# Altium footprint library IS31FL3731-SALS2.PcbLib: 3 footprints
Each footprint in its own frame and in the unit in brackets; x right, y up, seen from the top. Pads: shape width x height; smd on the part's side, far side on the other; paste and mask are expansions set on the pad; w line width, h text height; cw(c..) or ccw(c..) is an arc to the next point about the centre after c.
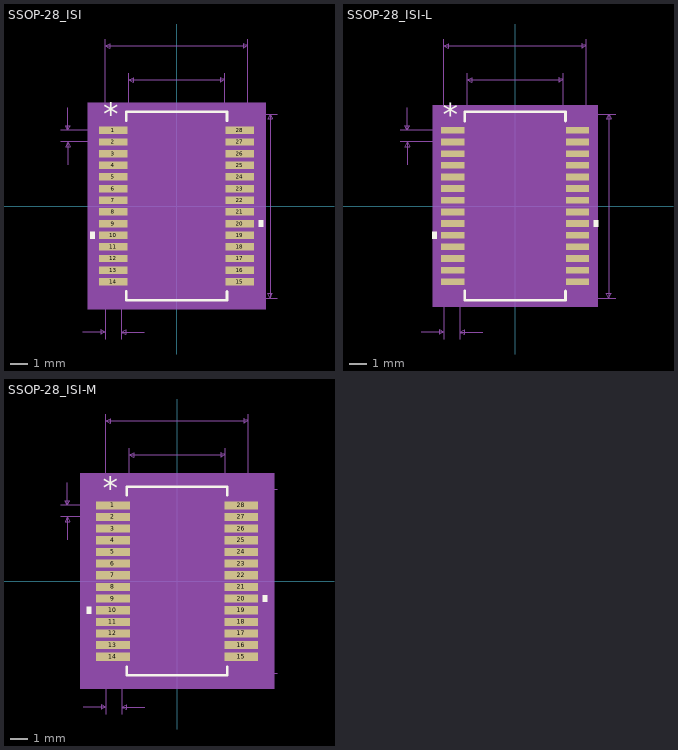
[diagram p0: the footprints below, top view; thin cyan lines are the x and y axes]

## SSOP-28_ISI [mm]
pads (28):
  rect 1.589x0.416 smd paste+0 mask+0: 1(-3.531,4.225) 2(-3.531,3.575) 3(-3.531,2.925) 4(-3.531,2.275) 5(-3.531,1.625) 6(-3.531,0.975) 7(-3.531,0.325) 8(-3.531,-0.325) 9(-3.531,-0.975) 10(-3.531,-1.625) 11(-3.531,-2.275) 12(-3.531,-2.925) 13(-3.531,-3.575) 14(-3.531,-4.225) 15(3.531,-4.225) 16(3.531,-3.575) 17(3.531,-2.925) 18(3.531,-2.275) 19(3.531,-1.625) 20(3.531,-0.975) 21(3.531,-0.325) 22(3.531,0.325) 23(3.531,0.975) 24(3.531,1.625) 25(3.531,2.275) 26(3.531,2.925) 27(3.531,3.575) 28(3.531,4.225)
Top Overlay:
  region: -4.579,-1.434 -4.833,-1.434 -4.833,-1.815 -4.579,-1.815
  region: 4.579,-0.784 4.833,-0.784 4.833,-1.165 4.579,-1.165
  lines w0.152: -2.807,-4.766 -2.807,-5.258 2.807,-5.258 2.807,-4.766 ; -2.807,4.766 -2.807,5.258 2.807,5.258 2.807,4.766
  text "*" at -4.102,4.514 h1.27
Mechanical 5:
  region: 4.96,-5.766 -4.96,-5.766 -4.96,5.766 4.96,5.766
Mechanical 7:
  lines w0.025: -6.452,3.575 -3.531,3.575 ; -6.452,4.225 -3.531,4.225 ; -6.071,2.305 -6.071,3.575 ; -6.071,5.495 -6.071,4.225 ; -5.245,-7.036 -3.975,-7.036 ; -3.975,-7.417 -3.975,0 -3.975,9.322 ; -3.086,-7.417 -3.086,0 ; -2.68,0 -2.68,7.417 ; -1.816,-7.036 -3.086,-7.036 ; 0,-5.131 5.601,-5.131 ; 0,5.131 5.601,5.131 ; 2.68,0 2.68,7.417 ; 3.975,0 3.975,9.322 ; -6.071,3.575 -6.198,3.321 -5.944,3.321 -6.071,3.575 ; -6.071,4.225 -6.198,4.479 -5.944,4.479 -6.071,4.225 ; -3.975,-7.036 -4.229,-6.909 -4.229,-7.163 -3.975,-7.036 ; -3.975,8.941 3.975,8.941 ; -3.975,8.941 -3.721,9.068 -3.721,8.814 -3.975,8.941 ; -3.086,-7.036 -2.832,-6.909 -2.832,-7.163 -3.086,-7.036 ; -2.68,7.036 2.68,7.036 ; -2.68,7.036 -2.426,7.163 -2.426,6.909 -2.68,7.036 ; 2.68,7.036 2.426,7.163 2.426,6.909 2.68,7.036 ; 3.975,8.941 3.721,9.068 3.721,8.814 3.975,8.941 ; 5.22,-5.131 5.22,5.131 ; 5.22,-5.131 5.093,-4.877 5.347,-4.877 5.22,-5.131 ; 5.22,5.131 5.093,4.877 5.347,4.877 5.22,5.131
  text "Default Padstyle: r159_42" at -7.938,-10.211 h1.27
  text "Pin One Padstyle: r159_42" at -7.938,-11.735 h1.27
  text "Alt 1 Padstyle: b152_229h76" at -8.572,-16.307 h1.27
  text "Alt 2 Padstyle: b229_152h76" at -8.572,-17.831 h1.27
  text "0.211in/5.359mm" at -2.381,7.544 h0.64
  text "0.313in/7.95mm" at -2.222,9.449 h0.64
  text "0.404in/10.262mm" at 5.728,-0.318 h0.64
  text "0.026in/0.65mm" at -11.024,3.582 h0.64
  text "0.035in/0.889mm" at -5.912,-8.179 h0.64
Mechanical 13:
  lines w0: -0.305,5.131 ccw(c0,5.131) 0.305,5.131
  lines w0.025: -3.975,-4.403 -3.975,-4.047 -2.68,-4.047 -2.68,-4.403 -3.975,-4.403 ; -3.975,-3.753 -3.975,-3.397 -2.68,-3.397 -2.68,-3.753 -3.975,-3.753 ; -3.975,-3.103 -3.975,-2.747 -2.68,-2.747 -2.68,-3.103 -3.975,-3.103 ; -3.975,-2.453 -3.975,-2.097 -2.68,-2.097 -2.68,-2.453 -3.975,-2.453 ; -3.975,-1.803 -3.975,-1.447 -2.68,-1.447 -2.68,-1.803 -3.975,-1.803 ; -3.975,-1.153 -3.975,-0.797 -2.68,-0.797 -2.68,-1.153 -3.975,-1.153 ; -3.975,-0.503 -3.975,-0.147 -2.68,-0.147 -2.68,-0.503 -3.975,-0.503 ; -3.975,0.147 -3.975,0.503 -2.68,0.503 -2.68,0.147 -3.975,0.147 ; -3.975,0.797 -3.975,1.153 -2.68,1.153 -2.68,0.797 -3.975,0.797 ; -3.975,1.447 -3.975,1.803 -2.68,1.803 -2.68,1.447 -3.975,1.447 ; -3.975,2.097 -3.975,2.453 -2.68,2.453 -2.68,2.097 -3.975,2.097 ; -3.975,2.747 -3.975,3.103 -2.68,3.103 -2.68,2.747 -3.975,2.747 ; -3.975,3.397 -3.975,3.753 -2.68,3.753 -2.68,3.397 -3.975,3.397 ; -3.975,4.047 -3.975,4.403 -2.68,4.403 -2.68,4.047 -3.975,4.047 ; -2.68,-5.131 2.68,-5.131 2.68,5.131 -2.68,5.131 -2.68,-5.131 ; 2.68,-4.403 2.68,-4.047 3.975,-4.047 3.975,-4.403 2.68,-4.403 ; 2.68,-3.753 2.68,-3.397 3.975,-3.397 3.975,-3.753 2.68,-3.753 ; 2.68,-3.103 2.68,-2.747 3.975,-2.747 3.975,-3.103 2.68,-3.103 ; 2.68,-2.453 2.68,-2.097 3.975,-2.097 3.975,-2.453 2.68,-2.453 ; 2.68,-1.803 2.68,-1.447 3.975,-1.447 3.975,-1.803 2.68,-1.803 ; 2.68,-1.153 2.68,-0.797 3.975,-0.797 3.975,-1.153 2.68,-1.153 ; 2.68,-0.503 2.68,-0.147 3.975,-0.147 3.975,-0.503 2.68,-0.503 ; 2.68,0.147 2.68,0.503 3.975,0.503 3.975,0.147 2.68,0.147 ; 2.68,0.797 2.68,1.153 3.975,1.153 3.975,0.797 2.68,0.797 ; 2.68,1.447 2.68,1.803 3.975,1.803 3.975,1.447 2.68,1.447 ; 2.68,2.097 2.68,2.453 3.975,2.453 3.975,2.097 2.68,2.097 ; 2.68,2.747 2.68,3.103 3.975,3.103 3.975,2.747 2.68,2.747 ; 2.68,3.397 2.68,3.753 3.975,3.753 3.975,3.397 2.68,3.397 ; 2.68,4.047 2.68,4.403 3.975,4.403 3.975,4.047 2.68,4.047
  text "*" at -2.616,3.785 h1.27
Mechanical 15:
  region: -2.934,-4.687 -4.579,-4.687 -4.579,4.687 -2.934,4.687 -2.934,5.385 2.934,5.385 2.934,4.687 4.579,4.687 4.579,-4.687 2.934,-4.687 2.934,-5.385 -2.934,-5.385
  lines w0.152: -4.579,-4.687 -4.579,4.687 -2.934,4.687 -2.934,5.385 2.934,5.385 2.934,4.687 4.579,4.687 4.579,-4.687 2.934,-4.687 2.934,-5.385 -2.934,-5.385 -2.934,-4.687 -4.579,-4.687
3D body: height 0.25, standoff 0, extent 0,0 0.254,0.254

## SSOP-28_ISI-L [mm]
pads (28):
  rect 1.289x0.376 smd paste+0 mask+0: 1(-3.481,4.225) 2(-3.481,3.575) 3(-3.481,2.925) 4(-3.481,2.275) 5(-3.481,1.625) 6(-3.481,0.975) 7(-3.481,0.325) 8(-3.481,-0.325) 9(-3.481,-0.975) 10(-3.481,-1.625) 11(-3.481,-2.275) 12(-3.481,-2.925) 13(-3.481,-3.575) 14(-3.481,-4.225) 15(3.481,-4.225) 16(3.481,-3.575) 17(3.481,-2.925) 18(3.481,-2.275) 19(3.481,-1.625) 20(3.481,-0.975) 21(3.481,-0.325) 22(3.481,0.325) 23(3.481,0.975) 24(3.481,1.625) 25(3.481,2.275) 26(3.481,2.925) 27(3.481,3.575) 28(3.481,4.225)
Top Overlay:
  region: -4.379,-1.434 -4.633,-1.434 -4.633,-1.815 -4.379,-1.815
  region: 4.379,-0.784 4.633,-0.784 4.633,-1.165 4.379,-1.165
  lines w0.152: -2.807,-4.744 -2.807,-5.258 2.807,-5.258 2.807,-4.744 ; -2.807,4.744 -2.807,5.258 2.807,5.258 2.807,4.744
  text "*" at -4.052,4.474 h1.27
Mechanical 5:
  region: 4.608,-5.613 -4.608,-5.613 -4.608,5.613 4.608,5.613
Mechanical 7:
  lines w0.025: -6.402,3.575 -3.481,3.575 ; -6.402,4.225 -3.481,4.225 ; -6.021,2.305 -6.021,3.575 ; -6.021,5.495 -6.021,4.225 ; -5.245,-7.036 -3.975,-7.036 ; -3.975,-7.417 -3.975,0 -3.975,9.322 ; -3.086,-7.417 -3.086,0 ; -2.68,0 -2.68,7.417 ; -1.816,-7.036 -3.086,-7.036 ; 0,-5.131 5.601,-5.131 ; 0,5.131 5.601,5.131 ; 2.68,0 2.68,7.417 ; 3.975,0 3.975,9.322 ; -6.021,3.575 -6.148,3.321 -5.894,3.321 -6.021,3.575 ; -6.021,4.225 -6.148,4.479 -5.894,4.479 -6.021,4.225 ; -3.975,-7.036 -4.229,-6.909 -4.229,-7.163 -3.975,-7.036 ; -3.975,8.941 3.975,8.941 ; -3.975,8.941 -3.721,9.068 -3.721,8.814 -3.975,8.941 ; -3.086,-7.036 -2.832,-6.909 -2.832,-7.163 -3.086,-7.036 ; -2.68,7.036 2.68,7.036 ; -2.68,7.036 -2.426,7.163 -2.426,6.909 -2.68,7.036 ; 2.68,7.036 2.426,7.163 2.426,6.909 2.68,7.036 ; 3.975,8.941 3.721,9.068 3.721,8.814 3.975,8.941 ; 5.22,-5.131 5.22,5.131 ; 5.22,-5.131 5.093,-4.877 5.347,-4.877 5.22,-5.131 ; 5.22,5.131 5.093,4.877 5.347,4.877 5.22,5.131
  text "Default Padstyle: r129_38" at -7.938,-10.211 h1.27
  text "Pin One Padstyle: r129_38" at -7.938,-11.735 h1.27
  text "Alt 1 Padstyle: b152_229h76" at -8.572,-16.307 h1.27
  text "Alt 2 Padstyle: b229_152h76" at -8.572,-17.831 h1.27
  text "0.211in/5.359mm" at -2.381,7.544 h0.64
  text "0.313in/7.95mm" at -2.222,9.449 h0.64
  text "0.404in/10.262mm" at 5.728,-0.318 h0.64
  text "0.026in/0.65mm" at -10.974,3.582 h0.64
  text "0.035in/0.889mm" at -5.912,-8.179 h0.64
Mechanical 13:
  lines w0: -0.305,5.131 ccw(c0,5.131) 0.305,5.131
  lines w0.025: -3.975,-4.403 -3.975,-4.047 -2.68,-4.047 -2.68,-4.403 -3.975,-4.403 ; -3.975,-3.753 -3.975,-3.397 -2.68,-3.397 -2.68,-3.753 -3.975,-3.753 ; -3.975,-3.103 -3.975,-2.747 -2.68,-2.747 -2.68,-3.103 -3.975,-3.103 ; -3.975,-2.453 -3.975,-2.097 -2.68,-2.097 -2.68,-2.453 -3.975,-2.453 ; -3.975,-1.803 -3.975,-1.447 -2.68,-1.447 -2.68,-1.803 -3.975,-1.803 ; -3.975,-1.153 -3.975,-0.797 -2.68,-0.797 -2.68,-1.153 -3.975,-1.153 ; -3.975,-0.503 -3.975,-0.147 -2.68,-0.147 -2.68,-0.503 -3.975,-0.503 ; -3.975,0.147 -3.975,0.503 -2.68,0.503 -2.68,0.147 -3.975,0.147 ; -3.975,0.797 -3.975,1.153 -2.68,1.153 -2.68,0.797 -3.975,0.797 ; -3.975,1.447 -3.975,1.803 -2.68,1.803 -2.68,1.447 -3.975,1.447 ; -3.975,2.097 -3.975,2.453 -2.68,2.453 -2.68,2.097 -3.975,2.097 ; -3.975,2.747 -3.975,3.103 -2.68,3.103 -2.68,2.747 -3.975,2.747 ; -3.975,3.397 -3.975,3.753 -2.68,3.753 -2.68,3.397 -3.975,3.397 ; -3.975,4.047 -3.975,4.403 -2.68,4.403 -2.68,4.047 -3.975,4.047 ; -2.68,-5.131 2.68,-5.131 2.68,5.131 -2.68,5.131 -2.68,-5.131 ; 2.68,-4.403 2.68,-4.047 3.975,-4.047 3.975,-4.403 2.68,-4.403 ; 2.68,-3.753 2.68,-3.397 3.975,-3.397 3.975,-3.753 2.68,-3.753 ; 2.68,-3.103 2.68,-2.747 3.975,-2.747 3.975,-3.103 2.68,-3.103 ; 2.68,-2.453 2.68,-2.097 3.975,-2.097 3.975,-2.453 2.68,-2.453 ; 2.68,-1.803 2.68,-1.447 3.975,-1.447 3.975,-1.803 2.68,-1.803 ; 2.68,-1.153 2.68,-0.797 3.975,-0.797 3.975,-1.153 2.68,-1.153 ; 2.68,-0.503 2.68,-0.147 3.975,-0.147 3.975,-0.503 2.68,-0.503 ; 2.68,0.147 2.68,0.503 3.975,0.503 3.975,0.147 2.68,0.147 ; 2.68,0.797 2.68,1.153 3.975,1.153 3.975,0.797 2.68,0.797 ; 2.68,1.447 2.68,1.803 3.975,1.803 3.975,1.447 2.68,1.447 ; 2.68,2.097 2.68,2.453 3.975,2.453 3.975,2.097 2.68,2.097 ; 2.68,2.747 2.68,3.103 3.975,3.103 3.975,2.747 2.68,2.747 ; 2.68,3.397 2.68,3.753 3.975,3.753 3.975,3.397 2.68,3.397 ; 2.68,4.047 2.68,4.403 3.975,4.403 3.975,4.047 2.68,4.047
  text "*" at -2.616,3.785 h1.27
Mechanical 15:
  region: -2.781,-4.514 -4.227,-4.514 -4.227,4.514 -2.781,4.514 -2.781,5.232 2.781,5.232 2.781,4.514 4.227,4.514 4.227,-4.514 2.781,-4.514 2.781,-5.232 -2.781,-5.232
  lines w0.152: -4.227,-4.514 -4.227,4.514 -2.781,4.514 -2.781,5.232 2.781,5.232 2.781,4.514 4.227,4.514 4.227,-4.514 2.781,-4.514 2.781,-5.232 -2.781,-5.232 -2.781,-4.514 -4.227,-4.514
3D body: height 0.25, standoff 0, extent 0,0 0.254,0.254

## SSOP-28_ISI-M [mm]
pads (28):
  rect 1.889x0.456 smd paste+0 mask+0: 1(-3.581,4.225) 2(-3.581,3.575) 3(-3.581,2.925) 4(-3.581,2.275) 5(-3.581,1.625) 6(-3.581,0.975) 7(-3.581,0.325) 8(-3.581,-0.325) 9(-3.581,-0.975) 10(-3.581,-1.625) 11(-3.581,-2.275) 12(-3.581,-2.925) 13(-3.581,-3.575) 14(-3.581,-4.225) 15(3.581,-4.225) 16(3.581,-3.575) 17(3.581,-2.925) 18(3.581,-2.275) 19(3.581,-1.625) 20(3.581,-0.975) 21(3.581,-0.325) 22(3.581,0.325) 23(3.581,0.975) 24(3.581,1.625) 25(3.581,2.275) 26(3.581,2.925) 27(3.581,3.575) 28(3.581,4.225)
Top Overlay:
  region: -4.779,-1.434 -5.033,-1.434 -5.033,-1.815 -4.779,-1.815
  region: 4.779,-0.784 5.033,-0.784 5.033,-1.165 4.779,-1.165
  lines w0.152: -2.807,-4.786 -2.807,-5.258 2.807,-5.258 2.807,-4.786 ; -2.807,4.786 -2.807,5.258 2.807,5.258 2.807,4.786
  text "*" at -4.152,4.554 h1.27
Mechanical 5:
  region: 5.414,-6.02 -5.414,-6.02 -5.414,6.02 5.414,6.02
Mechanical 7:
  lines w0.025: -6.502,3.575 -3.581,3.575 ; -6.502,4.225 -3.581,4.225 ; -6.121,2.305 -6.121,3.575 ; -6.121,5.495 -6.121,4.225 ; -5.245,-7.036 -3.975,-7.036 ; -3.975,-7.417 -3.975,0 -3.975,9.322 ; -3.086,-7.417 -3.086,0 ; -2.68,0 -2.68,7.417 ; -1.816,-7.036 -3.086,-7.036 ; 0,-5.131 5.601,-5.131 ; 0,5.131 5.601,5.131 ; 2.68,0 2.68,7.417 ; 3.975,0 3.975,9.322 ; -6.121,3.575 -6.248,3.321 -5.994,3.321 -6.121,3.575 ; -6.121,4.225 -6.248,4.479 -5.994,4.479 -6.121,4.225 ; -3.975,-7.036 -4.229,-6.909 -4.229,-7.163 -3.975,-7.036 ; -3.975,8.941 3.975,8.941 ; -3.975,8.941 -3.721,9.068 -3.721,8.814 -3.975,8.941 ; -3.086,-7.036 -2.832,-6.909 -2.832,-7.163 -3.086,-7.036 ; -2.68,7.036 2.68,7.036 ; -2.68,7.036 -2.426,7.163 -2.426,6.909 -2.68,7.036 ; 2.68,7.036 2.426,7.163 2.426,6.909 2.68,7.036 ; 3.975,8.941 3.721,9.068 3.721,8.814 3.975,8.941 ; 5.22,-5.131 5.22,5.131 ; 5.22,-5.131 5.093,-4.877 5.347,-4.877 5.22,-5.131 ; 5.22,5.131 5.093,4.877 5.347,4.877 5.22,5.131
  text "Default Padstyle: r189_46" at -7.938,-10.211 h1.27
  text "Pin One Padstyle: r189_46" at -7.938,-11.735 h1.27
  text "Alt 1 Padstyle: b152_229h76" at -8.572,-16.307 h1.27
  text "Alt 2 Padstyle: b229_152h76" at -8.572,-17.831 h1.27
  text "0.211in/5.359mm" at -2.381,7.544 h0.64
  text "0.313in/7.95mm" at -2.222,9.449 h0.64
  text "0.404in/10.262mm" at 5.728,-0.318 h0.64
  text "0.026in/0.65mm" at -11.074,3.582 h0.64
  text "0.035in/0.889mm" at -5.912,-8.179 h0.64
Mechanical 13:
  lines w0: -0.305,5.131 ccw(c0,5.131) 0.305,5.131
  lines w0.025: -3.975,-4.403 -3.975,-4.047 -2.68,-4.047 -2.68,-4.403 -3.975,-4.403 ; -3.975,-3.753 -3.975,-3.397 -2.68,-3.397 -2.68,-3.753 -3.975,-3.753 ; -3.975,-3.103 -3.975,-2.747 -2.68,-2.747 -2.68,-3.103 -3.975,-3.103 ; -3.975,-2.453 -3.975,-2.097 -2.68,-2.097 -2.68,-2.453 -3.975,-2.453 ; -3.975,-1.803 -3.975,-1.447 -2.68,-1.447 -2.68,-1.803 -3.975,-1.803 ; -3.975,-1.153 -3.975,-0.797 -2.68,-0.797 -2.68,-1.153 -3.975,-1.153 ; -3.975,-0.503 -3.975,-0.147 -2.68,-0.147 -2.68,-0.503 -3.975,-0.503 ; -3.975,0.147 -3.975,0.503 -2.68,0.503 -2.68,0.147 -3.975,0.147 ; -3.975,0.797 -3.975,1.153 -2.68,1.153 -2.68,0.797 -3.975,0.797 ; -3.975,1.447 -3.975,1.803 -2.68,1.803 -2.68,1.447 -3.975,1.447 ; -3.975,2.097 -3.975,2.453 -2.68,2.453 -2.68,2.097 -3.975,2.097 ; -3.975,2.747 -3.975,3.103 -2.68,3.103 -2.68,2.747 -3.975,2.747 ; -3.975,3.397 -3.975,3.753 -2.68,3.753 -2.68,3.397 -3.975,3.397 ; -3.975,4.047 -3.975,4.403 -2.68,4.403 -2.68,4.047 -3.975,4.047 ; -2.68,-5.131 2.68,-5.131 2.68,5.131 -2.68,5.131 -2.68,-5.131 ; 2.68,-4.403 2.68,-4.047 3.975,-4.047 3.975,-4.403 2.68,-4.403 ; 2.68,-3.753 2.68,-3.397 3.975,-3.397 3.975,-3.753 2.68,-3.753 ; 2.68,-3.103 2.68,-2.747 3.975,-2.747 3.975,-3.103 2.68,-3.103 ; 2.68,-2.453 2.68,-2.097 3.975,-2.097 3.975,-2.453 2.68,-2.453 ; 2.68,-1.803 2.68,-1.447 3.975,-1.447 3.975,-1.803 2.68,-1.803 ; 2.68,-1.153 2.68,-0.797 3.975,-0.797 3.975,-1.153 2.68,-1.153 ; 2.68,-0.503 2.68,-0.147 3.975,-0.147 3.975,-0.503 2.68,-0.503 ; 2.68,0.147 2.68,0.503 3.975,0.503 3.975,0.147 2.68,0.147 ; 2.68,0.797 2.68,1.153 3.975,1.153 3.975,0.797 2.68,0.797 ; 2.68,1.447 2.68,1.803 3.975,1.803 3.975,1.447 2.68,1.447 ; 2.68,2.097 2.68,2.453 3.975,2.453 3.975,2.097 2.68,2.097 ; 2.68,2.747 2.68,3.103 3.975,3.103 3.975,2.747 2.68,2.747 ; 2.68,3.397 2.68,3.753 3.975,3.753 3.975,3.397 2.68,3.397 ; 2.68,4.047 2.68,4.403 3.975,4.403 3.975,4.047 2.68,4.047
  text "*" at -2.616,3.785 h1.27
Mechanical 15:
  region: -3.188,-4.961 -5.033,-4.961 -5.033,4.961 -3.188,4.961 -3.188,5.639 3.188,5.639 3.188,4.961 5.033,4.961 5.033,-4.961 3.188,-4.961 3.188,-5.639 -3.188,-5.639
  lines w0.152: -5.033,-4.961 -5.033,4.961 -3.188,4.961 -3.188,5.639 3.188,5.639 3.188,4.961 5.033,4.961 5.033,-4.961 3.188,-4.961 3.188,-5.639 -3.188,-5.639 -3.188,-4.961 -5.033,-4.961
3D body: height 0.25, standoff 0, extent 0,0 0.254,0.254